# Altium schematic symbol library TMJ325KB7106KMHP.SchLib: 1 symbol
Pins are listed as number, name and electrical type; pins without a type are passive.

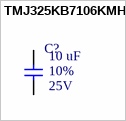
[diagram p0: symbol TMJ325KB7106KMHP]

## TMJ325KB7106KMHP
designator C?  Rated Voltage: 25V  Tolerance: 10%  Capacitence: 10 uF  (hidden comment: TMJ325KB7106KMHP)
CAP CER 10UF 25V X7R 1210; MFR: Taiyo Yuden; PN: TMJ325KB7106KMHP; ComponentLink1Description: Datasheet; ComponentLink1URL: https://ds.yuden.co.jp/TYCOMPAS/ut/detail?pn=TMJ325KB7106KMHP%20&u=M; Temperature Coefficient: X7R; Package: 1210; Footprint: C1210; Supplier 1: Digi-Key; Supplier Part Number 1: 587-5591-1-ND
footprint C1210_LESS_22UF (A generic 1210 footprint)
pins: 1, 2